# EAGLE library part 690357101072 (library Wurth_Connectors_WR-MM)
WR-MM Male Connector w/o Latch & w. Polarization KIND PROPERTIES: Pitch 2.54 mm Quality Class :25 Mating cycles Gender:Male MATERIAL PROPERTIES: Insulator Material:PBT Insulator Flammability Rating UL94 V-0 Insulator Color:Red Contact Material :Phosphor Bronze Contact Plating :Mat Tin over Nickel Contact Type: Stamped GENERAL PROPERTIES: Operating Temperature:-40 °C up to +105 °C Compliance Lead free / RoHS ELECTRICAL PROPERTIES: IR 1:1.5 A Working Voltage 100 V (AC) Withstanding Voltage:500 V (AC) Contact Resistance: 10 mΩ Insulation Resistance:1000 MΩ PACKAGING PROPERTIES: cULus Approval:E323964 Packaging :Tube <https://katalog.we-online.com/media/images/v2/o33157v209%20Family_WR-MM_69035710xx72.jpg> Details see: https://katalog.we-online.com/en/em/MM_1_27_MALE_CONNECTOR_W_O_LATCH_AND_WITH_POLARIZATION_69035710XX72 Updated by Yingchun,Shan 2019-10-28 2019 (C) Würth Elektronik
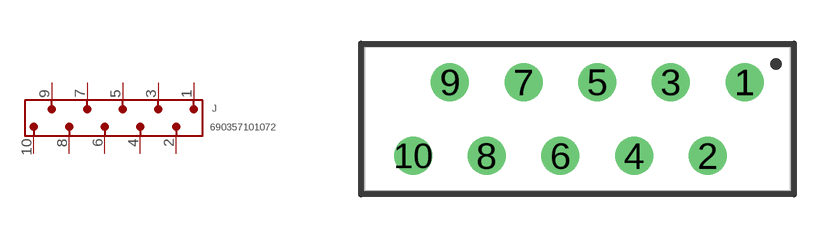
[diagram p34: symbol with the pads of 690357101072; footprint 690357101072]

Designator prefix J

## 690357101072 (DATASHEET-URL: https://www.we-online.com/catalog/datasheet/690357101072.pdf; GENDER: Male; IR: 1.5A; PACKAGING: Tube; PART-NUMBER: 690357101072; PINS: 10; PITCH: 2.54; TYPE: Straight; VALUE: 690357101072)  [690357101072]
1  1  pas
2  2  pas
3  3  pas
4  4  pas
5  5  pas
6  6  pas
7  7  pas
8  8  pas
9  9  pas
10  10  pas

## Footprint 690357101072 (pad centres in mm)
WR-MM Male Connector w/o Latch & w. Polarization, 10 Pins
drill 0.8: 1 5.76,1.27; 2 4.49,-1.27; 3 3.22,1.27; 4 1.95,-1.27; 5 0.68,1.27; 6 -0.59,-1.27; 7 -1.86,1.27; 8 -3.13,-1.27; 9 -4.4,1.27; 10 -5.67,-1.27